# Altium schematic symbol library OLEDIIC128X64.SchLib: 1 symbol
Pins are listed as number, name and electrical type; pins without a type are passive.

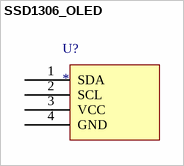
[diagram p0: symbol SSD1306_OLED]

## SSD1306_OLED
designator U?
pins: 1 SDA, 2 SCL, 3 VCC, 4 GND